# EAGLE library part IN-12A (library iStivi - Tubes)
IN-12A: medium numeric topview nixie tube
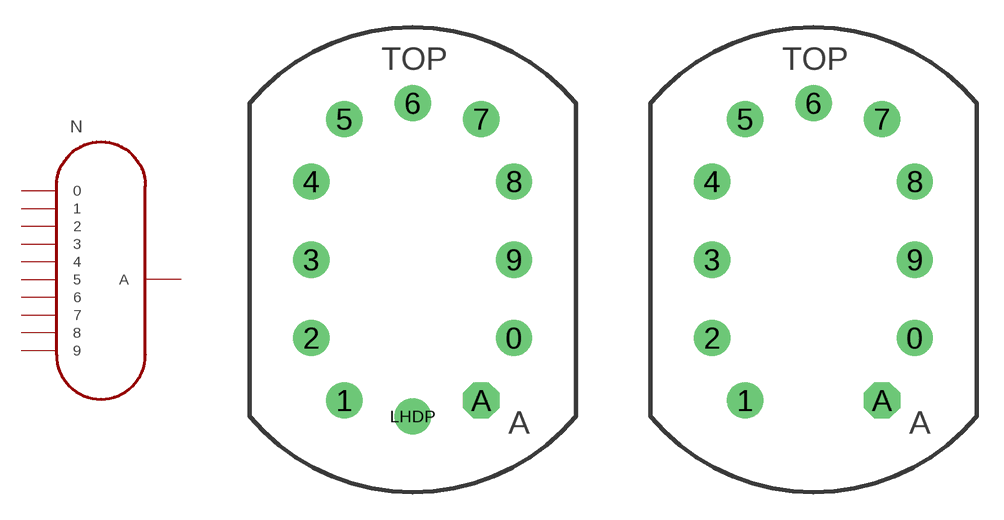
[diagram p1: symbol with the pads of IN-12; footprints IN-12, IN-12_NO-DP]

Designator prefix N

## IN-12A  [IN-12]
0  0
1  1
2  2
3  3
4  4
5  5
6  6
7  7
8  8
9  9
A  A

## IN-12A-NO_DP  [IN-12_NO-DP]
Pads as for IN-12

## Footprint IN-12 (pad centres in mm)
May be used with socket: SK-136
drill 0.9 pad 2: 0 5.59,-4.32; 1 -3.78,-7.766; 2 -5.59,-4.32; 3 -5.59,0; 4 -5.59,4.32; 5 -3.78,7.766; 6 0,8.64; 7 3.78,7.766; 8 5.59,4.32; 9 5.59,0; LHDP 0,-8.64
drill 0.9 pad 2 octagon: A 3.78,-7.766

## Footprint IN-12_NO-DP (pad centres in mm)
IN-12 pin layout without the decimal point pin connected.
drill 0.9 pad 2: 0 5.59,-4.32; 1 -3.78,-7.766; 2 -5.59,-4.32; 3 -5.59,0; 4 -5.59,4.32; 5 -3.78,7.766; 6 0,8.64; 7 3.78,7.766; 8 5.59,4.32; 9 5.59,0
drill 0.9 pad 2 octagon: A 3.78,-7.766